# EAGLE library part 691309410005 (library Wurth_Terminal_Blocks_Connectors_rev15d)
WR - TBL Serie 3094 - 7.62mm Reversed Gender Horizontal PCB Header , 5 pins=>Code : Con_TBL_Pluggable_7.62_PCB_H_691309410005 <http://katalog.we-online.de/media/images/eican/Con_TBL_Pluggable_7.62_PCB_H_6913094100xx_pf2.jpg> Details see: http://katalog.we-online.de/en/em/691_309_410_0xx Created 2014-06-25, Karrer Zheng 2014 (C) Würth Elektronik
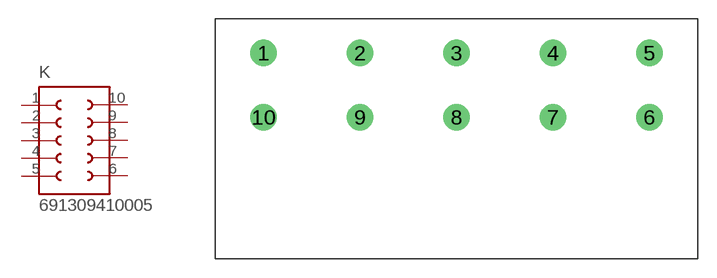
[diagram p198: symbol with the pads of 691309410005; footprint 691309410005]

Designator prefix K

## 691309410005  [691309410005]
1  1  pas
2  2  pas
3  3  pas
4  4  pas
5  5  pas
6  6  pas
7  7  pas
8  8  pas
9  9  pas
10  10  pas

## Footprint 691309410005 (pad centres in mm)
WR - TBL Serie 3094 - 7.62mm Reversed Gender Horizontal PCB Header , 5 pins
drill 1.4: 1 -22.86,0; 2 -15.24,0; 3 -7.62,0; 4 0,0; 5 7.62,0; 6 7.62,-5.08; 7 0,-5.08; 8 -7.62,-5.08; 9 -15.24,-5.08; 10 -22.86,-5.08